# Altium footprint library CG0603MLC-05E.PcbLib: 1 footprints
Each footprint in its own frame and in the unit in brackets; x right, y up, seen from the top. Pads: shape width x height; smd on the part's side, far side on the other; paste and mask are expansions set on the pad; w line width, h text height; cw(c..) or ccw(c..) is an arc to the next point about the centre after c.
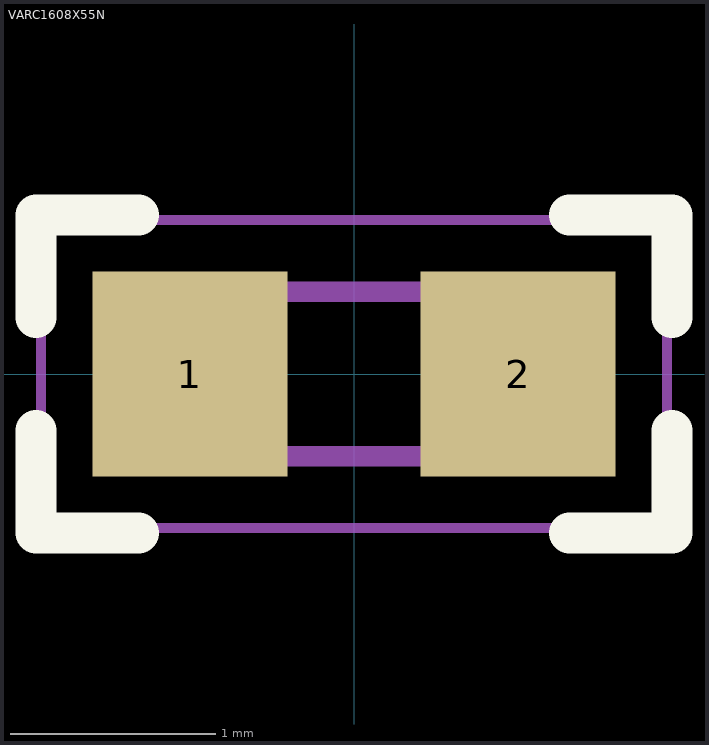
[diagram p0: the footprint, top view; thin cyan lines are the x and y axes]

## VARC1608X55N [mm]
pads (2):
  rect 0.95x1 smd: 1(-0.8,0) 2(0.8,0)
Top Overlay:
  lines w0.2: -1.55,-0.275 -1.55,-0.775 -1.05,-0.775 ; -1.55,0.275 -1.55,0.775 -1.05,0.775 ; 1.05,-0.775 1.55,-0.775 1.55,-0.275 ; 1.05,0.775 1.55,0.775 1.55,0.275
Mechanical 13:
  lines w0.1: -0.8,-0.4 0.8,-0.4 0.8,0.4 -0.8,0.4 -0.8,-0.4
Mechanical 15:
  lines w0.05: -1.525,-0.75 1.525,-0.75 1.525,0.75 -1.525,0.75 -1.525,-0.75
3D body "CG0603MLC-05E.stp": height 0.55, standoff 0, extent -0.8,-0.4 0.8,0.4